# Altium footprint library Clocks.PcbLib: 2 footprints
Each footprint in its own frame and in the unit in brackets; x right, y up, seen from the top. Pads: shape width x height; smd on the part's side, far side on the other; paste and mask are expansions set on the pad; w line width, h text height; cw(c..) or ccw(c..) is an arc to the next point about the centre after c.
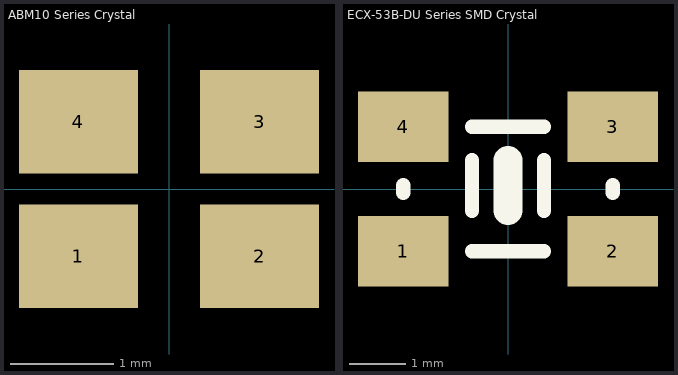
[diagram p0: the footprints below, top view; thin cyan lines are the x and y axes]

## ABM10 Series Crystal [mm] "Abracon ABM10 Series Crystal"
pads (4):
  rect 1.15x1 smd: 1(-0.875,-0.65) 2(0.875,-0.65) 3(0.875,0.65) 4(-0.875,0.65)
3D body "ABM10.STEP": height 0.51, standoff 0, extent -1.244,-1.016 1.245,0.99

## ECX-53B-DU Series SMD Crystal [mm]
pads (4):
  rect 1.6x1.25 smd: 1(-1.85,-1.1) 2(1.85,-1.1) 3(1.85,1.1) 4(-1.85,1.1)
Top Overlay:
  lines w0.254: -1.85,-0.064 -1.85,0.064 ; -0.635,-1.1 0.635,-1.1 ; -0.635,-0.381 -0.635,0.508 ; -0.635,1.1 0.635,1.1 ; 0.635,-0.381 0.635,0.508 ; 1.85,-0.064 1.85,0.064
  lines w0.508: 0,-0.381 0,0.508